# EAGLE library part CONN-TE84952-6 (library Master)
TE Connectivity FFC Connector - 84952-6 Datasheet: http://www.te.com/commerce/DocumentDelivery/DDEController?Action=srchrtrv&DocNm=84952&DocType=Customer+Drawing&DocLang=English
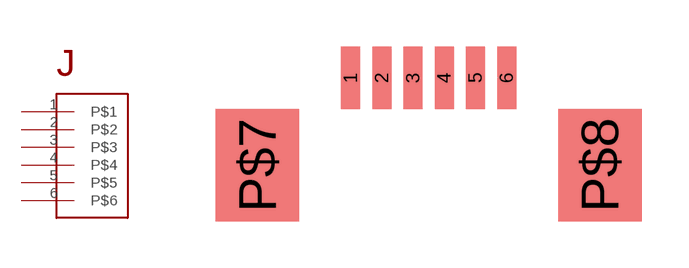
[diagram p6: symbol with the pads of TE84952-6-FFC; footprint TE84952-6-FFC]

Designator prefix J

## CONN-TE84952-6  [TE84952-6-FFC]
1  P$1
2  P$2
3  P$3
4  P$4
5  P$5
6  P$6

## Footprint TE84952-6-FFC (pad centres in mm)
TE Connectivity AMP Connector TE84952-6
smd 0.61 x 2: 1 -2.5,0; 2 -1.5,0; 3 -0.5,0; 4 0.5,0; 5 1.5,0; 6 2.5,0
smd 2.68 x 3.6: P$7 -5.49,-2.8; P$8 5.49,-2.8